# Altium footprint library 24797742.PcbLib: 1 footprints
Each footprint in its own frame and in the unit in brackets; x right, y up, seen from the top. Pads: shape width x height; smd on the part's side, far side on the other; paste and mask are expansions set on the pad; w line width, h text height; cw(c..) or ccw(c..) is an arc to the next point about the centre after c.
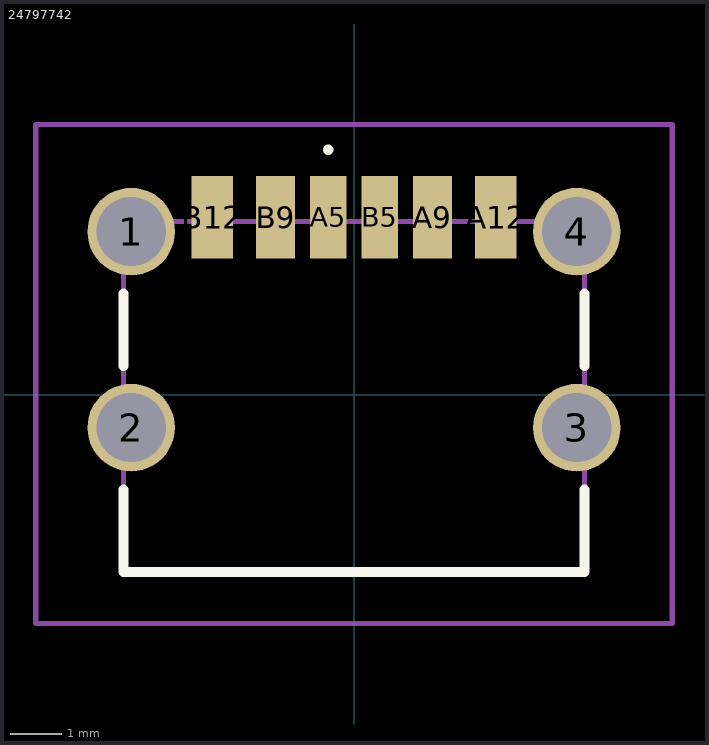
[diagram p0: the footprint, top view; thin cyan lines are the x and y axes]

## 24797742 [mm]
pads (10):
  round 1.7 hole 1.34: 1(-4.32,3.16) 2(-4.32,-0.64) 3(4.32,-0.64) 4(4.32,3.16)
  rect 0.7x1.6 smd: A5(-0.5,3.44) B5(0.5,3.44)
  rect 0.76x1.6 smd: A9(1.52,3.44) B9(-1.52,3.44)
  rect 0.8x1.6 smd: A12(2.75,3.44) B12(-2.75,3.44)
Top Overlay:
  lines w0.1: -0.5,4.7 cw(c-0.5,4.75) -0.5,4.8 ; -0.5,4.7 -0.5,4.7 ; -0.5,4.7 ccw(c-0.5,4.75) -0.5,4.8 ; -0.5,4.8 -0.5,4.8
  lines w0.2: -4.47,-1.84 -4.47,-3.44 4.47,-3.44 4.47,-1.84 ; -4.47,0.56 -4.47,1.96 ; 4.47,0.56 4.47,1.96
Mechanical 15:
  lines w0.1: -4.47,-3.44 4.47,-3.44 4.47,3.36 -4.47,3.36 -4.47,-3.44
Mechanical 20:
  lines w0.1: -6.17,-4.44 6.17,-4.44 6.17,5.24 -6.17,5.24 -6.17,-4.44